# Altium schematic symbol library Schlib1.SchLib: 21 symbols
Pins are listed as number, name and electrical type; pins without a type are passive.

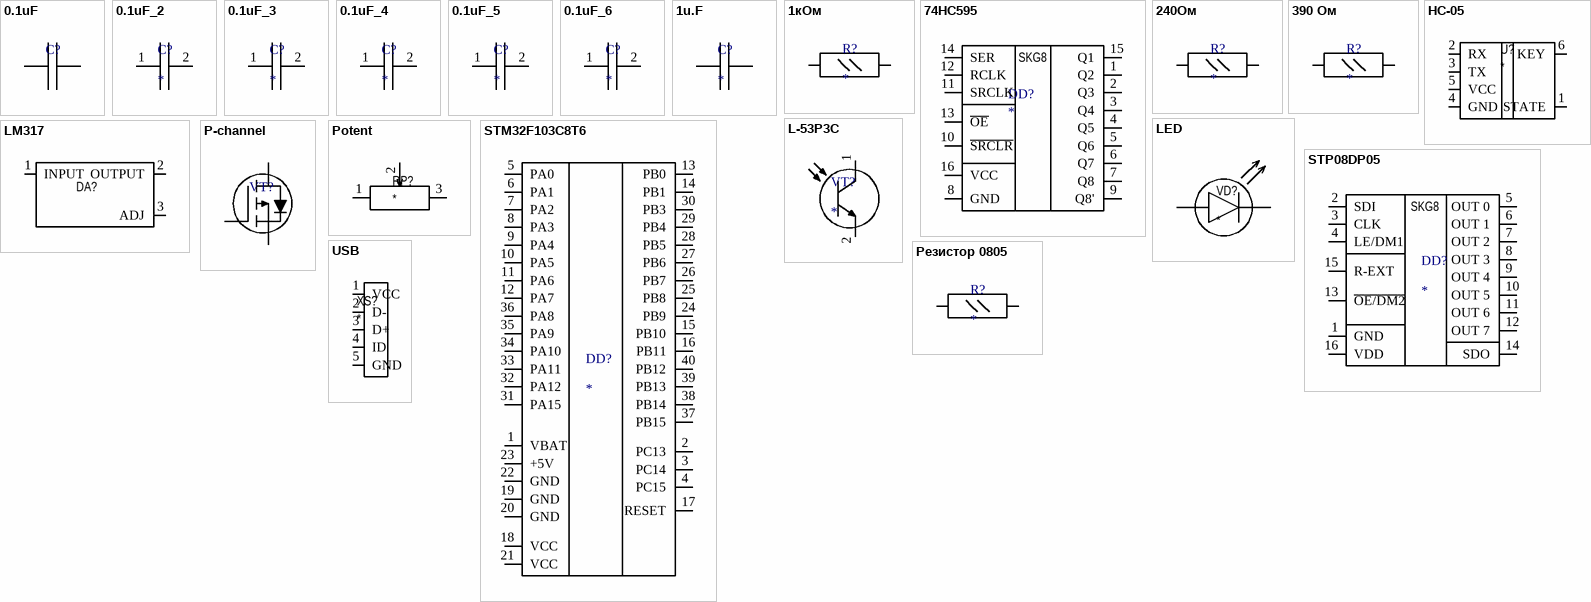
[diagram p0: symbols 0.1uF to Резистор 0805]

## 0.1uF
designator C?  (value not drawn)
footprint CAPC2112X13N (Chip Capacitor, 2-Leads, Body 2,10x1,25mm, IPC Medium Density)
pins: 1, 2

## 0.1uF_2
designator С?
pins: 1, 2

## 0.1uF_3
designator С?
pins: 1, 2

## 0.1uF_4
designator С?
pins: 1, 2

## 0.1uF_5
designator С?
pins: 1, 2

## 0.1uF_6
designator С?
pins: 1, 2

## 1u.F
designator C?
footprint CAPC2112X13N (Chip Capacitor, 2-Leads, Body 2,10x1,25mm, IPC Medium Density)
pins: 1, 2

## 1кОм
designator R?
footprint RESC2113X06N (Chip Resistor, 2-Leads, Body 2,10x1,30mm, IPC Medium Density)
pins: 1, 2

## 74HC595
designator DD?
Сдвиговый регистр
footprint SOIC127P600X175-16N (SOIC, 16-Leads, Body 9,90x4,00mm, Pitch 1,27mm, IPC Medium Density)
pins: 1 Q2, 2 Q3, 3 Q4, 4 Q5, 5 Q6, 6 Q7, 7 Q8, 8 GND, 9 Q8', 10 ~{SRCLR}, 11 SRCLK, 12 RCLK, 13 ~{OE}, 14 SER, 15 Q1, 16 VCC
text: SKG8

## 240Ом
designator R?
footprint RESC2113X06N (Chip Resistor, 2-Leads, Body 2,10x1,30mm, IPC Medium Density)
pins: 1, 2

## 390 Ом
designator R?
footprint RESC2113X06N (Chip Resistor, 2-Leads, Body 2,10x1,30mm, IPC Medium Density)
pins: 1, 2

## HC-05
designator U?
footprint HC-05
pins: 1 STATE, 2 RX, 3 TX, 4 GND, 5 VCC, 6 KEY

## L-53P3C
designator VT?
pins: 1, 2

## LED
designator VD?
footprint LED
pins: 1, 2

## LM317
designator DA?  (value not drawn)
Регулируемый стабилизатор напряжения
footprint SOT230P700X180-4N (SOT223, 4-Leads, Body 6,50x7,00mm (avg), Pitch 2,30mm, IPC Medium Density)
pins: 1 INPUT, 2 OUTPUT, 3 ADJ

## P-channel
designator VT?  (value not drawn)
Транзистор MOSFET N-канальный
footprint SOT95P245X120-3N (SOT23, 3-Leads, Body 2,92x2,45mm, Pitch 0,95mm, IPC Medium Density)
pins: 1, 2, 3

## Potent
designator RP?
Переменный резистор 10кОм
footprint Potent1
pins: 1, 2, 3

## STM32F103C8T6
designator DD?
footprint stm32f103
pins: 1 VBAT, 2 PC13, 3 PC14, 4 PC15, 5 PA0, 6 PA1, 7 PA2, 8 PA3, 9 PA4, 10 PA5, 11 PA6, 12 PA7, 13 PB0, 14 PB1, 15 PB10, 16 PB11, 17 RESET, 18 VCC, 19 GND, 20 GND, 21 VCC, 22 GND, 23 +5V, 24 PB9, 25 PB8, 26 PB7, 27 PB6, 28 PB5, 29 PB4, 30 PB3, 31 PA15, 32 PA12, 33 PA11, 34 PA10, 35 PA9, 36 PA8, 37 PB15, 38 PB14, 39 PB13, 40 PB12

## STP08DP05
designator DD?
footprint SOIC127P600X175-16N (SOIC, 16-Leads, Body 9,90x4,00mm, Pitch 1,27mm, IPC Medium Density)
pins: 1 GND, 2 SDI, 3 CLK, 4 LE/DM1, 5 OUT 0, 6 OUT 1, 7 OUT 2, 8 OUT 3, 9 OUT 4, 10 OUT 5, 11 OUT 6, 12 OUT 7, 13 ~{OE/DM2}, 14 SDO, 15 R-EXT, 16 VDD
text: SKG8

## USB
designator XS?
footprint USB_Type2
pins: 1 VCC, 2 D-, 3 D+, 4 ID, 5 GND

## Резистор 0805
designator R?
footprint RESC2113X06N (Chip Resistor, 2-Leads, Body 2,10x1,30mm, IPC Medium Density)
pins: 1, 2